# EAGLE library part NJM3773FM2 (library Kolja)
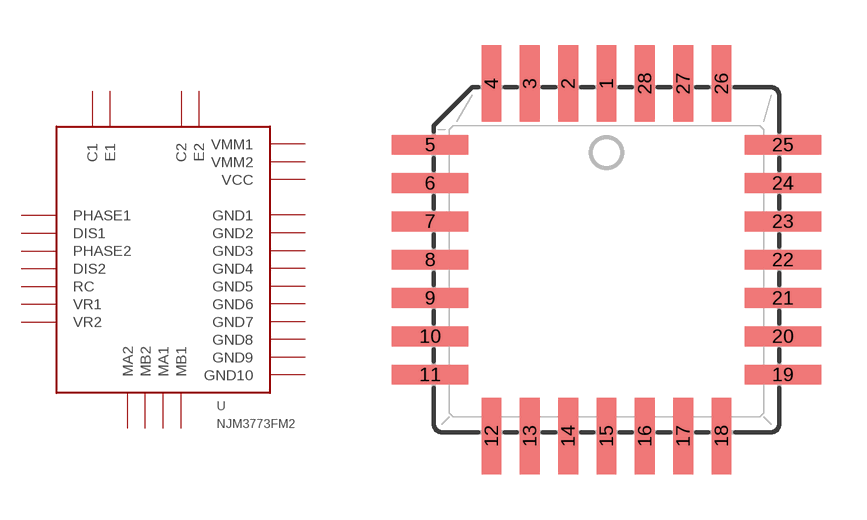
[diagram p5: symbol with the pads of PLCC28; footprint PLCC28]

Designator prefix -

## NJM3773FM2  [PLCC28]
1  GND1  pwr
2  GND2  pwr
3  GND3  pwr
4  VMM2  pwr
5  MA2  out
6  E2  in
7  MB2  out
8  MB1  out
9  GND4  pwr
10  E1  in
11  MA1  out
12  VMM1  pwr
13  GND5  pwr
14  GND6  pwr
15  GND7  pwr
16  GND8  pwr
17  GND9  pwr
18  VR1  in
19  C1  in
20  PHASE1  in
21  DIS1  in
22  RC  in
23  VCC  pwr
24  DIS2
25  PHASE2  in
26  C2  in
27  VR2  in
28  GND10  pwr

## Footprint PLCC28 (pad centres in mm)
smd 0.66 x 2.54: 1 0,4.572; 2 -1.27,4.572; 3 -2.54,4.572; 4 -3.81,4.572; 12 -3.81,-7.112; 13 -2.54,-7.112; 14 -1.27,-7.112; 15 0,-7.112; 16 1.27,-7.112; 17 2.54,-7.112; 18 3.81,-7.112; 26 3.81,4.572; 27 2.54,4.572; 28 1.27,4.572
smd 2.54 x 0.66: 5 -5.842,2.54; 6 -5.842,1.27; 7 -5.842,0; 8 -5.842,-1.27; 9 -5.842,-2.54; 10 -5.842,-3.81; 11 -5.842,-5.08; 19 5.842,-5.08; 20 5.842,-3.81; 21 5.842,-2.54; 22 5.842,-1.27; 23 5.842,0; 24 5.842,1.27; 25 5.842,2.54